# Altium footprint library CON00317_5_MOL.PcbLib: 1 footprints
Each footprint in its own frame and in the unit in brackets; x right, y up, seen from the top. Pads: shape width x height; smd on the part's side, far side on the other; paste and mask are expansions set on the pad; w line width, h text height; cw(c..) or ccw(c..) is an arc to the next point about the centre after c.
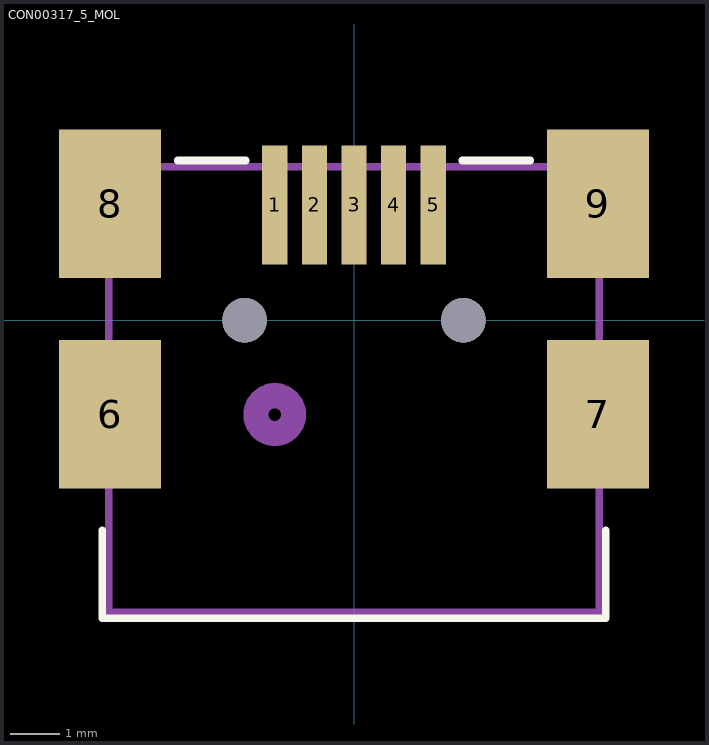
[diagram p0: the footprint, top view; thin cyan lines are the x and y axes]

## CON00317_5_MOL [mm]
pads (11):
  rect 0.508x2.4 smd mask+0.07: 1(-1.6,2.33) 2(-0.8,2.33) 3(0,2.33) 4(0.8,2.33) 5(1.6,2.33)
  rect 2.057x3 smd: 6(-4.925,-1.9) 7(4.925,-1.9) 8(-4.925,2.35) 9(4.925,2.35)
  round 0.9 hole 0.9 unplated: ""(-2.21,0) ""(2.21,0)
Top Overlay:
  lines w0.152: -5.08,-4.242 -5.08,-6.02 5.08,-6.02 5.08,-4.242 ; -3.556,3.226 -2.184,3.226 ; 2.184,3.226 3.556,3.226
Assembly Top:
  lines w0.152: -4.953,-5.893 4.953,-5.893 4.953,3.099 -4.953,3.099 -4.953,-5.893
  lines w0.508: -1.981,-1.905 ccw(c-1.6,-1.905) -1.219,-1.905 ccw(c-1.6,-1.905) -1.981,-1.905
3D body "675031020.stp": height 3.95, standoff -1, extent -4.953,-5.825 4.947,3.175